# Altium footprint library SMA-J-P-H-ST-TH1.PcbLib: 1 footprints
Each footprint in its own frame and in the unit in brackets; x right, y up, seen from the top. Pads: shape width x height; smd on the part's side, far side on the other; paste and mask are expansions set on the pad; w line width, h text height; cw(c..) or ccw(c..) is an arc to the next point about the centre after c.
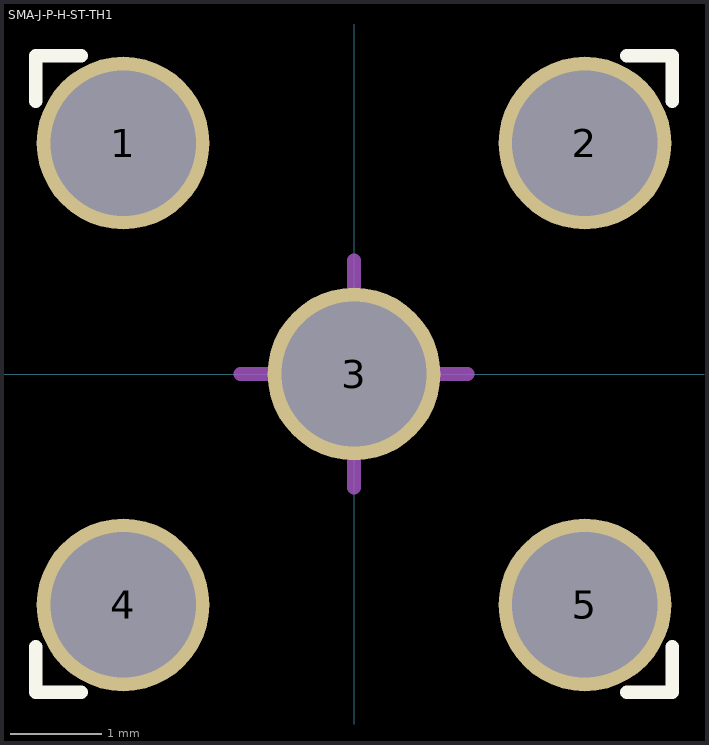
[diagram p0: the footprint, top view; thin cyan lines are the x and y axes]

## SMA-J-P-H-ST-TH1 [mm]
pads (5):
  round 1.9 / inner round 1.524 / far side round 1.9 hole 1.6 mask+0: 1(-2.54,2.54) 2(2.54,2.54) 3(0,0) 4(-2.54,-2.54) 5(2.54,-2.54)
Top Overlay:
  lines w0.15: -3.5,3 -3.5,3.5 ; -3,-3.5 -3.5,-3.5 ; 3,-3.5 3.5,-3.5 ; 3,3.5 3.5,3.5 ; -3.5,-3.5 -3.5,-3 -3.5,-3.5 ; -3.5,3.5 -3,3.5 -3.5,3.5 ; 3.5,-3.5 3.5,-3 3.5,-3.5 ; 3.5,3.5 3.5,3 3.5,3.5
Mechanical 15:
  lines w0.15: -1.25,0 0,0 ; 0,0 0,-1.25 0,0 ; 0,0 1.25,0 0,0 ; 0,0 0,1.25 0,0
3D body "SMA-J-P-H-ST-TH1.stp": height 9.55, standoff -3.95, extent -3.5,-3.5 3.5,3.5